# Altium schematic symbol library tekprobe.SchLib: 23 symbols
Pins are listed as number, name and electrical type; pins without a type are passive.

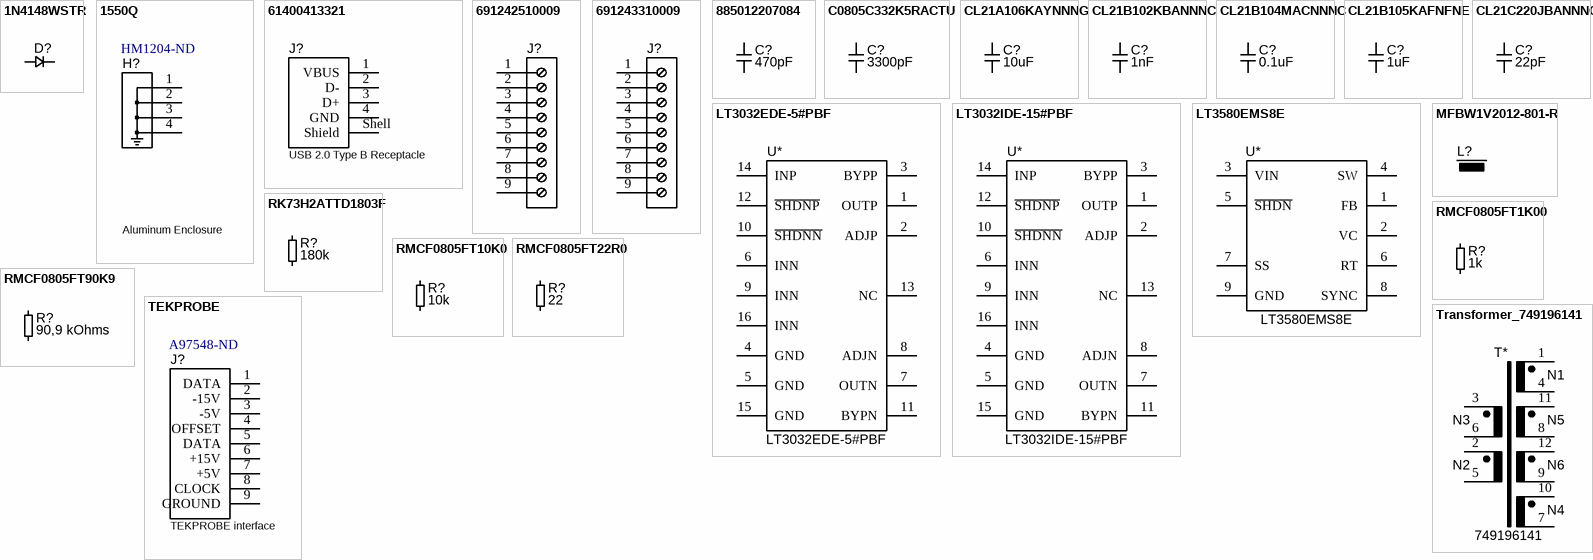
[diagram p0: symbols 1N4148WSTR to Transformer_749196141]

## 1N4148WSTR
designator D?
DIODE GEN PURP 75V 300MA SOD323; Manufacturer: SMC; Manufacturer Part Number: 1N4148WSTR; Reverse Recovery Time: 4ns; Supplier 1: Digi-Key; RoHS: No; Category: Rectifier Diodes; Stock 1: 173635; Pricing 1: 1=0.13000, 10=0.12100, 100=0.06610, 500=0.04066, 1000=0.02772 (USD); Mount: Surface Mount; Packaging: Tape and Reel; Max Reverse Voltage (DC): 75V; Average Rectified Current: 300mA; ComponentLink1URL: http://www.smc-diodes.com/propdf/1N4148WS%20N0572%20REV.B.pdf?src-supplier=Digi-Key; ComponentLink1Description: http://www.smc-diodes.com/propdf/1N4148WS%20N0572%20REV.B.pdf?src-supplier=Digi-Key; Supplier Part Number 1: 1655-1359-1-ND
footprint SODFL250X100-2N (SODFL, 2-Leads, Body 1.25x2.50mm, IPC Medium Density)
pins: A "Anode", K "Cathode"

## 1550Q
designator H?, comment Aluminum Enclosure  Supplier Part Number 1: HM1204-ND
BOX ALUM UNPAINTED 2.36"LX2.17"W; Manufacturer: Hammond Manufacturing; Manufacturer Part Number: 1550Q; Body Material: Aluminium; Ratings: IP54; Supplier 1: Digi-Key; RoHS: Yes; Category: Enclosures; Stock 1: 666; Pricing 1: 1=6.46000, 5=5.97600, 10=5.49100, 25=5.16800, 50=4.84500, 100=4.52200, 250=4.44124, 500=4.36050, 1000=4.29590 (USD); Case/Package: Metal; Material: Aluminium,Metal; Weight: 6.702053oz; Housing Material: Aluminium; Color: Natural; Package Quantity: 1; Length: 2.362inch; Width: 2.17inch; Height: 1.185inch; Thickness: 0.059inch; Depth: 26mm; REACH SVHC: No SVHC; ComponentLink1URL: https://datasheet.ciiva.com/20198/30-3787-20198174.pdf?src-supplier=Rapid+Electronics; ComponentLink1Description: https://datasheet.ciiva.com/20198/30-3787-20198174.pdf?src-supplier=Rapid+Electronics; ComponentLink2URL: https://datasheet.ciiva.com/29344/534473-da-01-en-aluminiumgeh-1550q-60x55x30mm-29344749.pdf?src-supplier=Conrad; ComponentLink2Description: https://datasheet.ciiva.com/29344/534473-da-01-en-aluminiumgeh-1550q-60x55x30mm-29344749.pdf?src-supplier=Conrad; ComponentLink3URL: https://datasheet.ciiva.com/16928/70165840-16928747.pdf?src-supplier=Allied+Electronics; ComponentLink3Description: https://datasheet.ciiva.com/16928/70165840-16928747.pdf?src-supplier=Allied+Electronics
footprint 1550Q
pins: 1 DATA, 2 -15V, 3 -5V, 4 OFFSET

## 61400413321
designator J?, comment USB 2.0 Type B Receptacle
USB 2.0 Type B, Receptacle, Vertical, THT; Manufacturer: Wurth Elektronik; Manufacturer Part Number: 61400413321; Rated Current: 1.5A; Pin Number: 4; Interface Type: Type B; Working Voltage: 30VAC; ComponentLink1Description: Manufacturer; ComponentLink1URL: http://www.we-online.de; ComponentLink2Description: Datasheet; ComponentLink2URL: https://katalog.we-online.com/em/datasheet/61400413321.pdf; Published Date: August 2020; Gender: Receptacle; Type: Vertical; Packaging: Tray; Operating Temperature: -40 to +105degC; Mounting Technology: THT; Application: USB 2.0
footprint 61400413321 (USB 2.0 Type B Vertical)
pins: 1 VBUS, 2 D-, 3 D+, 4 GND, Shell Shield

## 691242510009
designator J?
WR-TBL Serie 2425 Horizontal Entry Modular, Rising Cage Clamp, THT, pitch 5.08mm, 9p; Manufacturer Part Number: 691242510009; Manufacturer: Wurth Elektronik; Modularity: No; PCB/Cable/Panel: PCB; Pin Number: 9; Rated Current [UL]: 14A; Working Voltage [UL]: 300VAC; ComponentLink1Description: Manufacturer; ComponentLink1URL: http://www.we-online.de; ComponentLink2URL: https://katalog.we-online.de/em/datasheet/691242510009.pdf; ComponentLink2Description: Datasheet; Mounting Technology: THT; Packaging: Box; Operating Temperature: -30 to +120degC; Pitch: 5.08mm; Published Date: Feburary 2021; Type: Horizontal; Application: Rising Cage Clamp
footprint 691242510009 (Serie 2425 - 5.08 mm _ 9 pins)
pins: 1, 2, 3, 4, 5, 6, 7, 8, 9

## 691243310009
designator J?
WR-TBL Serie 2433 Horizontal Entry Modular, Rising Cage Clamp, THT, pitch 3.81mm, 9p; Manufacturer Part Number: 691243310009; Manufacturer: Wurth Elektronik; Modularity: No; PCB/Cable/Panel: PCB; Pin Number: 9; Rated Current [UL]: 10A; Working Voltage [UL]: 300VAC; ComponentLink1Description: Manufacturer; ComponentLink1URL: http://www.we-online.de; ComponentLink2URL: https://katalog.we-online.de/em/datasheet/691243310009.pdf; ComponentLink2Description: Datasheet; Mounting Technology: THT; Packaging: Box; Operating Temperature: -30 to +120degC; Pitch: 3.81mm; Published Date: Feburary 2021; Type: Horizontal; Application: Rising Cage Clamp
footprint 691243310009 (Serie 2433 - 3.81 mm _ 9 pins)
pins: 1, 2, 3, 4, 5, 6, 7, 8, 9

## 885012207084
designator C?, comment 470pF
CAP CER 470PF 50V X7R 0805; Manufacturer: Wurth Electronics; Manufacturer Part Number: 885012207084; Tolerance: 10%; Supplier 1: Digi-Key; RoHS: Yes; Category: Ceramic Capacitors; Stock 1: 227; Pricing 1: 1=0.10000, 10=0.04000, 100=0.03590, 500=0.03172 (USD); Mount: Surface Mount; Case/Package: 0805; Case Code (Metric): 2012; Case Code (Imperial): 0805; Min Operating Temperature: -55°C; Max Operating Temperature: 125°C; Packaging: Tape and Reel; Capacitance: 470pF; Voltage Rating: 50V; Length: 0.079inch; Width: 0.049inch; Thickness: 0.035inch; RoHS Compliant: Yes; ComponentLink1URL: https://katalog.we-online.de/pbs/datasheet/885012207084.pdf?src-supplier=Digi-Key; ComponentLink1Description: https://katalog.we-online.de/pbs/datasheet/885012207084.pdf?src-supplier=Digi-Key; Supplier Part Number 1: 732-8066-1-ND
footprint CAP_0805
pins: 1, 2

## C0805C332K5RACTU
designator C?, comment 3300pF
KEMET - C0805C332K5RACTU - SMD Multilayer Ceramic Capacitor, 3300 pF, 50 V, 0805 [2012 Metric], ± 10%, X7R, C Series KEMET; Capacitance: 3.3nF; Voltage Rating: 50V; Dissipation Factor: 2.5%; Supplier 1: Digi-Key; Manufacturer: KEMET; Manufacturer Part Number: C0805C332K5RACTU; RoHS: Yes; Category: Ceramic Capacitors; Stock 1: 33474; Pricing 1: 1=0.10000, 10=0.06700, 50=0.03660, 100=0.02990, 500=0.02134, 1000=0.01676 (USD); Mount: Surface Mount; Case/Package: 0805; Number of Pins: 2; Case Code (Metric): 2012; Case Code (Imperial): 0805; Contact Plating: Tin,Matte; Dielectric Material: Ceramic; Min Operating Temperature: -55°C; Max Operating Temperature: 125°C; Packaging: Tape and Reel; Tolerance: 10%; Package Quantity: 1; Voltage Rating (DC): 50V; Dielectric: X7R; Termination: SMD/SMT; Voltage: 50V; Series: C; Construction: Flat; Length: 2mm; Width: 0.049inch; Height: 0.78mm; Thickness: 0.035inch; Lead Pitch: 0.75mm; Depth: 1.25mm; Radiation Hardening: No; REACH SVHC: No SVHC; RoHS Compliant: Yes; ComponentLink1URL: https://datasheet.ciiva.com/7842/kem-c1002-x7r-smd-7842598.pdf?src-supplier=Element14; ComponentLink1Description: https://datasheet.ciiva.com/7842/kem-c1002-x7r-smd-7842598.pdf?src-supplier=Element14; ComponentLink2URL: https://datasheet.ciiva.com/26948/getdatasheetpartid-385720-26948486.pdf?src-supplier=Verical; ComponentLink2Description: https://datasheet.ciiva.com/26948/getdatasheetpartid-385720-26948486.pdf?src-supplier=Verical; ComponentLink3URL: https://datasheet.ciiva.com/5415/kem-c1002-x7r-smd-357932-5415032.pdf?src-supplier=Mouser; ComponentLink3Description: https://datasheet.ciiva.com/5415/kem-c1002-x7r-smd-357932-5415032.pdf?src-supplier=Mouser; ComponentLink4URL: https://datasheet.ciiva.com/6126/kem-c1002-x7r-smd-6126698.pdf?src-supplier=Farnell; ComponentLink4Description: https://datasheet.ciiva.com/6126/kem-c1002-x7r-smd-6126698.pdf?src-supplier=Farnell; ComponentLink5URL: https://datasheet.ciiva.com/7842/1851736-7842314.pdf?src-supplier=Element14; ComponentLink5Description: https://datasheet.ciiva.com/7842/1851736-7842314.pdf?src-supplier=Element14; ComponentLink6URL: https://datasheet.ciiva.com/7842/1851736-7842315.pdf?src-supplier=Element14; ComponentLink6Description: https://datasheet.ciiva.com/7842/1851736-7842315.pdf?src-supplier=Element14; Supplier Part Number 1: 399-1153-1-ND
footprint CAP_0805
pins: 1, 2

## CL21A106KAYNNNG
designator C?, comment 10uF
CAP CER 10UF 25V X5R 0805; Manufacturer: Samsung; Manufacturer Part Number: CL21A106KAYNNNG; Tolerance: 10%; Supplier 1: Digi-Key; RoHS: Yes; Category: Ceramic Capacitors; Stock 1: 221798; Pricing 1: 1=0.21000, 10=0.14600, 50=0.08280, 100=0.06870, 500=0.04816, 1000=0.03987 (USD); Mount: Surface Mount; Case/Package: 0805; Case Code (Metric): 2012; Case Code (Imperial): 0805; Min Operating Temperature: -55°C; Max Operating Temperature: 85°C; Capacitance: 10uF; Dielectric: X5R; Packaging: Tape and Reel; Package Quantity: 3000; Voltage Rating: 25V; Series: CL; Construction: Flat; Length: 2mm; Width: 0.049inch; Height: 1.25mm; Thickness: 0.057inch; Depth: 1.25mm; Radiation Hardening: No; Lead Free: Lead Free; RoHS Compliant: Yes; ComponentLink1URL: https://datasheet.ciiva.com/26920/getdatasheetpartid-660292-26920195.pdf?src-supplier=Verical; ComponentLink1Description: https://datasheet.ciiva.com/26920/getdatasheetpartid-660292-26920195.pdf?src-supplier=Verical; Supplier Part Number 1: 1276-6454-1-ND
footprint CAP_0805
pins: 1, 2

## CL21B102KBANNNC
designator C?, comment 1nF
Cap Ceramic 0.001uF 50VDC X7R 10% SMD 0805 Paper T/R; Manufacturer: Samsung; Manufacturer Part Number: CL21B102KBANNNC; Voltage Rating: 50V; Supplier 1: Digi-Key; RoHS: Yes; Category: Ceramic Capacitors; Stock 1: 281332; Pricing 1: 1=0.10000, 10=0.04300, 50=0.02340, 100=0.01920, 500=0.01368, 1000=0.01075 (USD); Mount: Surface Mount; Case/Package: 0805; Case Code (Metric): 2012; Case Code (Imperial): 0805; Material: Ceramic; Contact Plating: Tin; Min Operating Temperature: -55°C; Max Operating Temperature: 125°C; Tolerance: 10%; Capacitance: 1nF; Dielectric: X7R; Packaging: Tape and Reel; Package Quantity: 4000; Voltage: 50V; Series: CL; Construction: Flat; Length: 2mm; Width: 0.049inch; Height: 0.65mm; Depth: 1.25mm; Thickness: 0.03inch; Radiation Hardening: No; RoHS Compliant: Yes; ComponentLink1URL: https://datasheet.ciiva.com/25802/cl21b102kbannnc-25802496.pdf?src-supplier=Digi-Key; ComponentLink1Description: https://datasheet.ciiva.com/25802/cl21b102kbannnc-25802496.pdf?src-supplier=Digi-Key; ComponentLink2URL: https://datasheet.ciiva.com/26838/getdatasheetpartid-357425-26838638.pdf?src-supplier=Verical; ComponentLink2Description: https://datasheet.ciiva.com/26838/getdatasheetpartid-357425-26838638.pdf?src-supplier=Verical; ComponentLink3URL: https://datasheet.ciiva.com/29199/456076-da-01-en-vs-kondensator-0805-29199069.pdf?src-supplier=Conrad; ComponentLink3Description: https://datasheet.ciiva.com/29199/456076-da-01-en-vs-kondensator-0805-29199069.pdf?src-supplier=Conrad; Supplier Part Number 1: 1276-1020-1-ND
footprint CAP_0805
pins: 1, 2

## CL21B104MACNNNC
designator C?, comment 0.1uF
CAP CER 0.1UF 25V X7R 0805; Manufacturer: Samsung; Manufacturer Part Number: CL21B104MACNNNC; Tolerance: 20%; Capacitance: 100nF; Supplier 1: Digi-Key; RoHS: Yes; Category: Ceramic Capacitors; Stock 1: 134913; Pricing 1: 1=0.10000, 10=0.03200, 50=0.01720, 100=0.01410, 500=0.01006, 1000=0.00791 (USD); Mount: Surface Mount; Case/Package: 0805; Case Code (Metric): 2012; Case Code (Imperial): 0805; Min Operating Temperature: -55°C; Max Operating Temperature: 125°C; Dielectric: X7R; Packaging: Tape and Reel; Package Quantity: 1; Voltage Rating: 25V; Voltage Rating (DC): 25V; Series: CL; Construction: Flat; Length: 2mm; Width: 0.049inch; Height: 0.85mm; Depth: 1.25mm; Thickness: 0.037inch; Radiation Hardening: No; Lead Free: Lead Free; RoHS Compliant: Yes; ComponentLink1URL: https://datasheet.ciiva.com/26936/getdatasheetpartid-782453-26936905.pdf?src-supplier=Verical; ComponentLink1Description: https://datasheet.ciiva.com/26936/getdatasheetpartid-782453-26936905.pdf?src-supplier=Verical; Supplier Part Number 1: 1276-2449-1-ND
footprint CAP_0805
pins: 1, 2

## CL21B105KAFNFNE
designator C?, comment 1uF
CAP CER 1UF 25V X7R 0805; Manufacturer: Samsung; Manufacturer Part Number: CL21B105KAFNFNE; Tolerance: 10%; Supplier 1: Digi-Key; RoHS: Yes; Category: Ceramic Capacitors; Stock 1: 271579; Pricing 1: 1=0.10000, 10=0.07300, 50=0.03980, 100=0.03260, 500=0.02326, 1000=0.01828 (USD); Mount: Surface Mount; Case/Package: 0805; Case Code (Metric): 2012; Case Code (Imperial): 0805; Min Operating Temperature: -55°C; Max Operating Temperature: 125°C; Capacitance: 1uF; Voltage Rating: 25V; Package Quantity: 1; Packaging: Tape and Reel; Dielectric: X7R; Series: CL; Construction: Flat; Length: 0.079inch; Width: 0.049inch; Height: 1.25mm; Thickness: 0.053inch; Depth: 1.25mm; Radiation Hardening: No; RoHS Compliant: Yes; ComponentLink1URL: https://datasheet.ciiva.com/25713/cl21b105kafnfne-25713092.pdf?src-supplier=Digi-Key; ComponentLink1Description: https://datasheet.ciiva.com/25713/cl21b105kafnfne-25713092.pdf?src-supplier=Digi-Key; Supplier Part Number 1: 1276-2926-1-ND
footprint CAP_0805
pins: 1, 2

## CL21C220JBANNNC
designator C?, comment 22pF
Cap Ceramic 22pF 50V C0G 5% SMD 0805 125C T/R; Manufacturer: Samsung; Manufacturer Part Number: CL21C220JBANNNC; Temperature Coefficient: 300ppm/°C; Supplier 1: Digi-Key; RoHS: Yes; Category: Ceramic Capacitors; Stock 1: 115566; Pricing 1: 1=0.10000, 10=0.05300, 50=0.02900, 100=0.02360, 500=0.01686, 1000=0.01325 (USD); Mount: Surface Mount; Case/Package: 0805; Case Code (Metric): 2012; Case Code (Imperial): 0805; Contact Plating: Tin; Material: Ceramic; Min Operating Temperature: -55°C; Max Operating Temperature: 125°C; Tolerance: 5%; Capacitance: 22pF; Dielectric: C0G; Voltage Rating (DC): 50V; Packaging: Tape and Reel; Package Quantity: 1; Voltage Rating: 50V; Voltage: 50V; Length: 2mm; Width: 0.049inch; Height: 0.65mm; Depth: 1.25mm; Thickness: 0.03inch; Radiation Hardening: No; Lead Free: Lead Free; ComponentLink1URL: https://datasheet.ciiva.com/25801/cl21c220jbannnc-25801668.pdf?src-supplier=Digi-Key; ComponentLink1Description: https://datasheet.ciiva.com/25801/cl21c220jbannnc-25801668.pdf?src-supplier=Digi-Key; ComponentLink2URL: https://datasheet.ciiva.com/15227/getdatasheetpartid-355345-15227198.pdf?src-supplier=Verical; ComponentLink2Description: https://datasheet.ciiva.com/15227/getdatasheetpartid-355345-15227198.pdf?src-supplier=Verical; ComponentLink3URL: https://datasheet.ciiva.com/29199/454687-da-01-en-vs-kondensator-0805-29199501.pdf?src-supplier=Conrad; ComponentLink3Description: https://datasheet.ciiva.com/29199/454687-da-01-en-vs-kondensator-0805-29199501.pdf?src-supplier=Conrad; ComponentLink4URL: https://datasheet.ciiva.com/16387/cl05b104kq5nnnc-16387287.pdf?src-supplier=Future+Electronics; ComponentLink4Description: https://datasheet.ciiva.com/16387/cl05b104kq5nnnc-16387287.pdf?src-supplier=Future+Electronics; Supplier Part Number 1: 1276-1047-1-ND
footprint CAP_0805
pins: 1, 2

## LT3032EDE-5#PBF
designator U*
IC REG LINEAR +-5V 14DFN; Manufacturer: Analog Devices / Linear Technology; Output Current: 150mA; Dropout Voltage: 300mV; Number of Outputs: 2; Output Voltage: 5V; Max Input Voltage: 20V; Min Input Voltage: 2.3V; Min Current Limit: 170mA; Polarity: Positive,Negative; Voltage - Output 2: -5V; Operating Supply Current: 25uA; Power Supply Rejection Ratio (PSRR): 68dB; Supplier 1: Digi-Key; Manufacturer Part Number: LT3032EDE-5#PBF; RoHS: Yes; Category: Voltage Regulators - Linear; Stock 1: 4272; Pricing 1: 1=5.87000, 10=5.27300, 25=4.98480, 100=4.32000, 250=4.09848, 500=3.67756, 1000=3.13500 (USD); Case/Package: DFN; Number of Pins: 14; Min Operating Temperature: -40°C; Max Operating Temperature: 125°C; Packaging: Rail/Tube; Package Quantity: 91; Number of Regulators: 2; Current - Output 1: 150mA; Current - Output 2: 150mA; Voltage - Output 1: 5V; Min Output Voltage: 5V; Max Output Voltage: 5V; Series: -; REACH SVHC: No SVHC; RoHS Compliant: Yes; ComponentLink1URL: https://datasheet.ciiva.com/8041/1679619-8041889.pdf?src-supplier=Element14; ComponentLink1Description: https://datasheet.ciiva.com/8041/1679619-8041889.pdf?src-supplier=Element14; ComponentLink2URL: https://datasheet.ciiva.com/2041/29070-2041604.pdf?src-supplier=Digi-Key; ComponentLink2Description: https://datasheet.ciiva.com/2041/29070-2041604.pdf?src-supplier=Digi-Key; Supplier Part Number 1: LT3032EDE-5#PBF-ND
footprint LT3032 (SON, 14-Leads, Body 4.00x3.00mm, Pitch 0.50mm, Thermal Pad 2.34x1.62mm, IPC Medium Density)
pins: 1 OUTP, 2 ADJP, 3 BYPP, 4 GND, 5 GND, 6 INN, 7 OUTN, 8 ADJN, 9 INN, 10 ~{SHDNN}, 11 BYPN, 12 ~{SHDNP}, 13 NC, 14 INP, 15 GND, 16 INN

## LT3032IDE-15#PBF
designator U*
IC REG LINEAR +-15V 14DFN; Manufacturer: Analog Devices / Linear Technology; Dropout Voltage: 300mV; Number of Outputs: 2; Output Voltage: 15V; Max Input Voltage: 20V; Min Input Voltage: 2.3V; Output Current: 150mA; Min Current Limit: 170mA; Operating Supply Current: 25uA; Power Supply Rejection Ratio (PSRR): 68dB; Supplier 1: Digi-Key; Manufacturer Part Number: LT3032IDE-15#PBF; RoHS: Yes; Category: Voltage Regulators - Linear; Stock 1: 249; Pricing 1: 1=6.80000, 10=6.10500, 25=5.77160, 100=5.00210, 250=4.74560, 500=4.25824, 1000=3.63000 (USD); Case/Package: DFN; Number of Pins: 14; Min Operating Temperature: -40°C; Max Operating Temperature: 125°C; Package Quantity: 91; Packaging: Rail/Tube; Number of Regulators: 2; Max Output Voltage: 15V; Min Output Voltage: 15V; Lead Free: Lead Free; RoHS Compliant: Yes; ComponentLink1URL: https://datasheet.ciiva.com/2059/29070-2059004.pdf?src-supplier=Digi-Key; ComponentLink1Description: https://datasheet.ciiva.com/2059/29070-2059004.pdf?src-supplier=Digi-Key; Supplier Part Number 1: 161-LT3032IDE-15#PBF-ND
footprint LT3032 (SON, 14-Leads, Body 4.00x3.00mm, Pitch 0.50mm, Thermal Pad 2.34x1.62mm, IPC Medium Density)
pins: 1 OUTP, 2 ADJP, 3 BYPP, 4 GND, 5 GND, 6 INN, 7 OUTN, 8 ADJN, 9 INN, 10 ~{SHDNN}, 11 BYPN, 12 ~{SHDNP}, 13 NC, 14 INP, 15 GND, 16 INN

## LT3580EMS8E
designator U*
IC REG MULT CONFIG INV ADJ 8MSOP; Manufacturer: Analog Devices / Linear Technology; Manufacturer Part Number: LT3580EMS8E#PBF; Max Input Voltage: 32V; Max Output Current: 2.8A; Min Input Voltage: 2.5V; Output Current: 2A; Output Voltage: 12V; Efficiency: 88%; Number of Outputs: 1; Switching Frequency: 2.5MHz; Synchronous Rectifier: No; Max Output Voltage: 42V; Min Output Voltage: -400mV; Topology: Boost; Output Type: Fixed,Adjustable; Supplier 1: Digi-Key; RoHS: Yes; Category: Voltage Regulators - Switching; Stock 1: 2999; Pricing 1: 1=5.62000, 10=5.04600, 25=4.77000, 100=4.13400, 250=3.92200, 500=3.51920, 1000=3.00000 (USD); Case/Package: MSOP; Number of Pins: 8; Min Operating Temperature: -40°C; Max Operating Temperature: 125°C; Package Quantity: 50; Packaging: Rail/Tube; Length: 3mm; Width: 3mm; Height: 0.86mm; REACH SVHC: No SVHC; ComponentLink1URL: https://datasheet.ciiva.com/7363/85270-7363576.pdf?src-supplier=Newark; ComponentLink1Description: https://datasheet.ciiva.com/7363/85270-7363576.pdf?src-supplier=Newark; ComponentLink2URL: https://datasheet.ciiva.com/6192/1599224-6192934.pdf?src-supplier=Farnell; ComponentLink2Description: https://datasheet.ciiva.com/6192/1599224-6192934.pdf?src-supplier=Farnell; ComponentLink3URL: https://datasheet.ciiva.com/7905/1599224-7905879.pdf?src-supplier=Element14; ComponentLink3Description: https://datasheet.ciiva.com/7905/1599224-7905879.pdf?src-supplier=Element14; ComponentLink4URL: https://datasheet.ciiva.com/2024/29562-2024728.pdf?src-supplier=Digi-Key; ComponentLink4Description: https://datasheet.ciiva.com/2024/29562-2024728.pdf?src-supplier=Digi-Key; Supplier Part Number 1: LT3580EMS8E#PBF-ND
footprint LT3580 (TSOP, 8-Leads, Body 3.00x3.00mm, Pitch 0.65mm, Thermal Pad 1.88x1.68mm, IPC Medium Density)
pins: 1 FB, 2 VC, 3 VIN, 4 SW, 5 ~{SHDN}, 6 RT, 7 SS, 8 SYNC, 9 GND

## MFBW1V2012-801-R
designator L?
Ferrite Chip Bead 800Ohm 800mA 0.3Ohm Multi-Layer 2-Pin 0805 T/R; Manufacturer: Cooper Bussmann; Manufacturer Part Number: MFBW1V2012-801-R; Supplier 1: Digi-Key; Stock 1: 1000; Pricing 1: 1=0.10000, 10=0.04800, 25=0.04280, 50=0.03820, 100=0.03250, 250=0.02868, 500=0.02628, 1000=0.02245 (USD); ComponentLink1URL: http://datasheet.octopart.com/MFBW1V2012-801-R-Cooper-Bussmann-datasheet-147669139.pdf?src-supplier=Sager+Electronics; ComponentLink1Description: http://datasheet.octopart.com/MFBW1V2012-801-R-Cooper-Bussmann-datasheet-147669139.pdf?src-supplier=Sager+Electronics; Supplier Part Number 1: 283-MFBW1V2012-801-RCT-ND
footprint RES_0805 (Chip Resistor, 2-Leads, Body 2.10x1.30mm, IPC Medium Density)
pins: 1, 2

## RK73H2ATTD1803F
designator R?, comment 180k
Thick Film Resistors 1/4W 180K OHM 1%; Manufacturer: KOA Speer; Manufacturer Part Number: RK73H2ATTD1803F; Resistance: 180kR; Power Rating: 125mW; Voltage Rating: 150V; Temperature Coefficient: 100ppm/°C; Supplier 1: Digi-Key; RoHS: Yes; Category: Chip SMD Resistors; Stock 1: 4592; Pricing 1: 1=0.10000, 10=0.03500, 100=0.01420, 1000=0.00640, 2500=0.00556 (USD); Case/Package: 0805; Number of Pins: 2; Case Code (Imperial): 0805; Case Code (Metric): 2012; Min Operating Temperature: -55°C; Max Operating Temperature: 155°C; Tolerance: 1%; Packaging: Tape and Reel; Resistor Type: Thick Film; Termination: SMD/SMT; Series: RK73H; Construction: Rectangular; Resistance Tolerance: 1%; Length: 2mm; Depth: 1.25mm; Military Standard: Not; Lead Free: Lead Free; RoHS Compliant: Yes; ComponentLink1URL: https://datasheet.ciiva.com/5557/rk73h-5557292.pdf?src-supplier=Mouser; ComponentLink1Description: https://datasheet.ciiva.com/5557/rk73h-5557292.pdf?src-supplier=Mouser; ComponentLink2URL: https://datasheet.ciiva.com/7763/549017-7763166.pdf?src-supplier=Element14; ComponentLink2Description: https://datasheet.ciiva.com/7763/549017-7763166.pdf?src-supplier=Element14; Supplier Part Number 1: 2019-RK73H2ATTD1803FCT-ND
footprint RES_0805 (Chip Resistor, 2-Leads, Body 2.10x1.30mm, IPC Medium Density)
pins: 1, 2

## RMCF0805FT1K00
designator R?, comment 1k
RES 1K OHM 1% 1/8W 0805; Manufacturer: Stackpole Electronics; Manufacturer Part Number: RMCF0805FT1K00; Resistance: 1kR; Power Rating: 125mW; Temperature Coefficient: 100ppm/°C; Supplier 1: Digi-Key; RoHS: Yes; Category: Chip SMD Resistors; Stock 1: 461865; Pricing 1: 1=0.10000, 10=0.02700, 100=0.01090, 1000=0.00488, 2500=0.00423 (USD); Mount: Surface Mount; Case/Package: 0805; Case Code (Metric): 2012; Case Code (Imperial): 0805; Contact Plating: Tin,Matte; Size Code: 0805; Min Operating Temperature: -55°C; Max Operating Temperature: 155°C; Tolerance: 1%; Packaging: Tape and Reel; Resistor Type: Thick Film; Number of Terminations: 2; Max Power Dissipation: 125mW; Features: Automotive AEC-Q200; Series: RMCF; Construction: Rectangular; Length: 2mm; Width: 0.049inch; Height: 0.026inch; Depth: 1.25mm; Radiation Hardening: No; Military Standard: Not; Lead Free: Lead Free; RoHS Compliant: Yes; ComponentLink1URL: https://datasheet.ciiva.com/15193/getdatasheetpartid-360136-15193546.pdf?src-supplier=Verical; ComponentLink1Description: https://datasheet.ciiva.com/15193/getdatasheetpartid-360136-15193546.pdf?src-supplier=Verical; Supplier Part Number 1: RMCF0805FT1K00CT-ND
footprint RES_0805 (Chip Resistor, 2-Leads, Body 2.10x1.30mm, IPC Medium Density)
pins: 1, 2

## RMCF0805FT10K0
designator R?, comment 10k
RES 10K OHM 1% 1/8W 0805; Manufacturer: Stackpole Electronics; Manufacturer Part Number: RMCF0805FT10K0; Resistance: 10kR; Power Rating: 125mW; Temperature Coefficient: 100ppm/°C; Supplier 1: Digi-Key; RoHS: Yes; Category: Chip SMD Resistors; Stock 1: 1832609; Pricing 1: 1=0.10000, 10=0.02700, 100=0.01090, 1000=0.00488, 2500=0.00423 (USD); Mount: Surface Mount; Case/Package: 0805; Case Code (Metric): 2012; Case Code (Imperial): 0805; Contact Plating: Tin,Matte; Size Code: 0805; Min Operating Temperature: -55°C; Max Operating Temperature: 155°C; Tolerance: 1%; Packaging: Tape and Reel; Resistor Type: Thick Film; Number of Terminations: 2; Max Power Dissipation: 125mW; Features: Automotive AEC-Q200; Series: RMCF; Construction: Rectangular; Length: 2mm; Width: 0.049inch; Height: 0.026inch; Depth: 1.25mm; Radiation Hardening: No; Lead Free: Lead Free; Military Standard: Not; RoHS Compliant: Yes; ComponentLink1URL: https://datasheet.ciiva.com/15193/getdatasheetpartid-362046-15193525.pdf?src-supplier=Verical; ComponentLink1Description: https://datasheet.ciiva.com/15193/getdatasheetpartid-362046-15193525.pdf?src-supplier=Verical; Supplier Part Number 1: RMCF0805FT10K0CT-ND
footprint RES_0805 (Chip Resistor, 2-Leads, Body 2.10x1.30mm, IPC Medium Density)
pins: 1, 2

## RMCF0805FT22R0
designator R?, comment 22
RES 22 OHM 1/8W 1% 0805 SMD; Manufacturer: Stackpole Electronics; Manufacturer Part Number: RMCF0805FT22R0; Resistance: 22R; Power Rating: 125mW; Temperature Coefficient: 100ppm/°C; Supplier 1: Digi-Key; RoHS: Yes; Category: Chip SMD Resistors; Stock 1: 126411; Pricing 1: 1=0.10000, 10=0.02700, 100=0.01090, 1000=0.00488, 2500=0.00423 (USD); Mount: Surface Mount; Case/Package: 0805; Case Code (Metric): 2012; Case Code (Imperial): 0805; Contact Plating: Tin,Matte; Size Code: 0805; Min Operating Temperature: -55°C; Max Operating Temperature: 155°C; Tolerance: 1%; Packaging: Tape and Reel; Resistor Type: Thick Film; Number of Terminations: 2; Max Power Dissipation: 125mW; Features: Automotive AEC-Q200; Series: RMCF; Length: 0.079inch; Width: 0.049inch; Height: 0.026inch; Radiation Hardening: No; Lead Free: Lead Free; RoHS Compliant: Yes; ComponentLink1URL: http://components.arrow.com/part/dataview/53343875S4424N1174?src-supplier=Arrow+Electronics; ComponentLink1Description: http://components.arrow.com/part/dataview/53343875S4424N1174?src-supplier=Arrow+Electronics; ComponentLink2URL: https://www.seielect.com/catalog/SEI-Packaging.pdf?src-supplier=Digi-Key; ComponentLink2Description: https://www.seielect.com/catalog/SEI-Packaging.pdf?src-supplier=Digi-Key; ComponentLink3URL: http://www.seielect.com/Catalog/SEI-RMC.pdf?src-supplier=Future+Electronics; ComponentLink3Description: http://www.seielect.com/Catalog/SEI-RMC.pdf?src-supplier=Future+Electronics; ComponentLink4URL: https://www.seielect.com/catalog/SEI-RMCF_RMCP.pdf?src-supplier=Avnet; ComponentLink4Description: https://www.seielect.com/catalog/SEI-RMCF_RMCP.pdf?src-supplier=Avnet; Supplier Part Number 1: RMCF0805FT22R0CT-ND
footprint RES_0805 (Chip Resistor, 2-Leads, Body 2.10x1.30mm, IPC Medium Density)
pins: 1, 2

## RMCF0805FT90K9
designator R?, comment 90,9 kOhms
Res Thick Film 0805 90.9K Ohm 1% 0.125W ±100ppm/°C Molded SMD Paper T/R; Manufacturer: Stackpole Electronics; Manufacturer Part Number: RMCF0805FT90K9; Resistance: 90.9kR; Power Rating: 125mW; Supplier 1: Digi-Key; RoHS: Yes; Category: Chip SMD Resistors; Stock 1: 27691; Pricing 1: 1=0.10000, 10=0.02700, 100=0.01090, 1000=0.00488, 2500=0.00423 (USD); Mount: Surface Mount; Case/Package: 0805; Case Code (Metric): 2012; Case Code (Imperial): 0805; Contact Plating: Tin,Matte; Size Code: 0805; Min Operating Temperature: -55°C; Max Operating Temperature: 155°C; Tolerance: 1%; Packaging: Tape and Reel; Resistor Type: Thick Film; Number of Terminations: 2; Max Power Dissipation: 125mW; Temperature Coefficient: 100ppm/°C; Features: Automotive AEC-Q200; Series: RMCF; Construction: Rectangular; Length: 0.079inch; Width: 0.049inch; Height: 0.026inch; Depth: 1.25mm; Radiation Hardening: No; Military Standard: Not; Lead Free: Lead Free; RoHS Compliant: Yes; ComponentLink1URL: https://datasheet.ciiva.com/3882/40960751s7172021n1174-3882844.pdf?src-supplier=Arrow+Electronics; ComponentLink1Description: https://datasheet.ciiva.com/3882/40960751s7172021n1174-3882844.pdf?src-supplier=Arrow+Electronics; ComponentLink2URL: https://datasheet.ciiva.com/15193/getdatasheetpartid-464223-15193623.pdf?src-supplier=Verical; ComponentLink2Description: https://datasheet.ciiva.com/15193/getdatasheetpartid-464223-15193623.pdf?src-supplier=Verical; Supplier Part Number 1: RMCF0805FT90K9CT-ND
footprint RES_0805 (Chip Resistor, 2-Leads, Body 2.10x1.30mm, IPC Medium Density)
pins: 1, 2

## TEKPROBE
designator J?, comment TEKPROBE interface  Supplier Part Number 1: A97548-ND
CONN BNC JACK STR 50 OHM SOLDER; Manufacturer: TE Connectivity; Manufacturer Part Number: 5-1634523-1; Dielectric Material: Polymethylpentene; Body Material: Zinc; Plating: Nickel; Number of Positions: 1; PCB Mount Retention: Without; Sealable: No (Without); Impedance: 50R; Frequency: 4GHz; Gender: Female; Polarity: Normal; Connector Type: BNC,Jack; Insulation Resistance: 5GR; Supplier 1: Digi-Key; RoHS: Yes; Category: RF / Coaxial Connectors; Stock 1: 14744; Pricing 1: 1=1.95000, 10=1.77400, 25=1.66520, 50=1.59260, 100=1.52030, 250=1.37552, 500=1.26692, 1000=1.08593 (USD); Mount: Panel; Contact Plating: Gold; Contact Material: Bronze; Insulation Material: Polymethylpentene; Body Plating: Nickel; Min Operating Temperature: -55°C; Max Operating Temperature: 85°C; Orientation: Straight; Package Quantity: 100; Packaging: Bulk; Fastening Type: Bayonet; Max Frequency: 4GHz; Termination: Solder; Length: 27.3mm; Depth: 13mm; Radiation Hardening: No; REACH SVHC: Unknown; ELV: Compliant; ComponentLink1URL: https://datasheet.ciiva.com/23783/1664198-23783552.pdf?src-supplier=Newark; ComponentLink1Description: https://datasheet.ciiva.com/23783/1664198-23783552.pdf?src-supplier=Newark; ComponentLink2URL: https://datasheet.ciiva.com/11762/0900766b80c71412-11762344.pdf?src-supplier=RSComponents; ComponentLink2Description: https://datasheet.ciiva.com/11762/0900766b80c71412-11762344.pdf?src-supplier=RSComponents; ComponentLink3URL: https://datasheet.ciiva.com/642/eng-cd-1634523-c-642763.pdf?src-supplier=Digi-Key; ComponentLink3Description: https://datasheet.ciiva.com/642/eng-cd-1634523-c-642763.pdf?src-supplier=Digi-Key; ComponentLink4URL: https://datasheet.ciiva.com/16652/eng-ds-6-1773448-5-zdc-rf-coax-50-75-ohm-1007-16652902.pdf?src-supplier=Avnet+Europe; ComponentLink4Description: https://datasheet.ciiva.com/16652/eng-ds-6-1773448-5-zdc-rf-coax-50-75-ohm-1007-16652902.pdf?src-supplier=Avnet+Europe; ComponentLink5URL: https://datasheet.ciiva.com/3131/eng-ds-6-1773448-5-zdc-rf-coax-50-75-ohm-1007-3131991.pdf?src-supplier=Avnet; ComponentLink5Description: https://datasheet.ciiva.com/3131/eng-ds-6-1773448-5-zdc-rf-coax-50-75-ohm-1007-3131991.pdf?src-supplier=Avnet; ComponentLink6URL: https://datasheet.ciiva.com/1448/580087-1448590.pdf?src-supplier=Element14; ComponentLink6Description: https://datasheet.ciiva.com/1448/580087-1448590.pdf?src-supplier=Element14
footprint tekprobe
pins: 1 DATA, 2 -15V, 3 -5V, 4 OFFSET, 5 DATA, 6 +15V, 7 +5V, 8 CLOCK, 9 GROUND

## Transformer_749196141
designator T*, comment 749196141
Flex Transformer WE-FLEX ER11/5; Manufacturer: Wurth Electronics; Secondary Current: 550mA; Inductance: 8.5uH; Turns Ratio: 1:1; Isolation Voltage: 500V; DC Resistance (DCR): 344mR; Max Frequency: 1MHz; Supplier 1: Digi-Key; Manufacturer Part Number: 749196141; RoHS: Yes; Category: Uncategorized; Stock 1: 1871; Pricing 1: 1=5.06000, 10=4.59200, 50=4.15500, 100=3.69600 (USD); Mount: Surface Mount; Min Operating Temperature: -40°C; Max Operating Temperature: 125°C; Packaging: Cut Tape; Series: WE-FLEX; Length: 12.9mm; Width: 9.2mm; Depth: 6.2mm; RoHS Compliant: Yes; ComponentLink1URL: https://datasheet.ciiva.com/16989/0900766b80649932-16989928.pdf?src-supplier=Allied+Electronics; ComponentLink1Description: https://datasheet.ciiva.com/16989/0900766b80649932-16989928.pdf?src-supplier=Allied+Electronics
footprint WE-FLEX_ER11/5 (Flexible Transformer for DC/DC Converter, size ER11/5)
pins: 1 N1dot, 2 N2dot, 3 N3dot, 4 N1, 5 N2, 6 N3, 7 N4, 8 N5, 9 N6, 10 N4dot, 11 N5dot, 12 N6dot